# Altium footprint library Inductance.PcbLib: 18 footprints (part 1 of 2)
Each footprint in its own frame and in the unit in brackets; x right, y up, seen from the top. Pads: shape width x height; smd on the part's side, far side on the other; paste and mask are expansions set on the pad; w line width, h text height; cw(c..) or ccw(c..) is an arc to the next point about the centre after c.
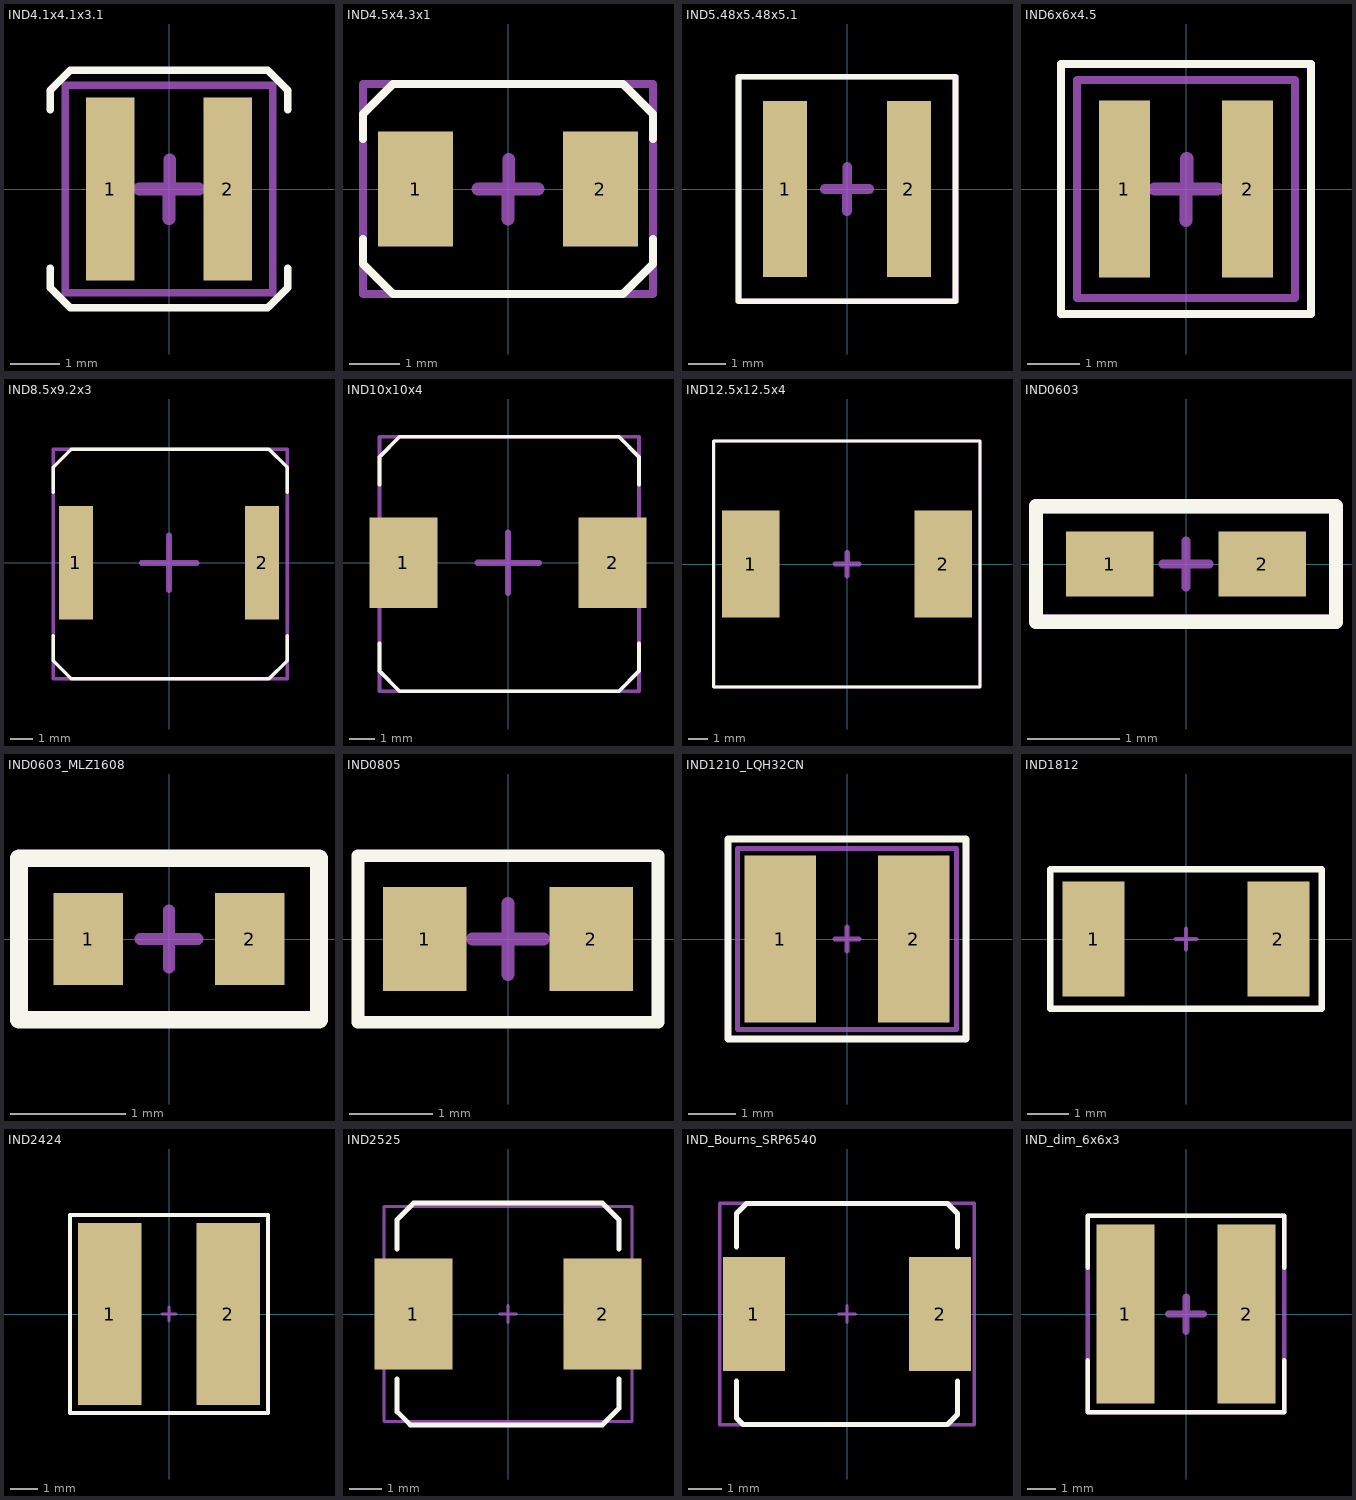
[diagram p0: the footprints below, top view; thin cyan lines are the x and y axes]

## IND4.1x4.1x3.1 [mm]
pads (2):
  rect 0.98x3.7 smd: 1(-1.185,0) 2(1.185,0)
Top Overlay:
  lines w0.153: -2.4,-1.6 -2.4,-2 -2,-2.4 2,-2.4 2.4,-2 2.4,-1.6 ; -2.4,1.6 -2.4,2 -2,2.4 2,2.4 2.4,2 2.4,1.6
Top Assembly:
  lines w0.153: -2.1,-2.1 2.1,-2.1 2.1,2.1 -2.1,2.1 -2.1,-2.1
  text "'.Designator'" at -2.2,2.1 h0.8
Top Courtyard:
  lines w0.1: -2.1,-2.1 2.1,-2.1 2.1,2.1 -2.1,2.1 -2.1,-2.1
  lines w0.254: -0.6,0 0,0 ; 0,-0.6 0,0 ; 0.013,-0.011 0.013,0.589 ; 0.6,0 0,0
3D body "WE-MAPI-4030_stp (rev1).stp": height 3.1, standoff 0, extent -2.05,-2.05 2.05,2.05

## IND4.5x4.3x1 [mm]
pads (2):
  rect 1.5x2.3 smd: 1(-1.85,0) 2(1.85,0)
Top Overlay:
  lines w0.153: -2.9,-1 -2.9,-1.5 -2.3,-2.1 -1.8,-2.1 2.3,-2.1 2.9,-1.5 2.9,-1 ; -2.9,1 -2.9,1.5 -2.3,2.1 -1.8,2.1 2.3,2.1 2.9,1.5 2.9,1
Top Assembly:
  lines w0.153: -2.9,-2.1 2.9,-2.1 2.9,2.1 -2.9,2.1 -2.9,-2.1
  text "'.Designator'" at -2.9,2.1 h0.8
Top Courtyard:
  lines w0.1: -2.9,-2.1 2.9,-2.1 2.9,2.1 -2.9,2.1 -2.9,-2.1
  lines w0.254: -0.6,0 0,0 ; 0,-0.6 0,0 ; 0.013,-0.011 0.013,0.589 ; 0.6,0 0,0

## IND5.48x5.48x5.1 [mm]
pads (2):
  rect 1.18x4.7 smd: 1(-1.655,0) 2(1.655,0)
Top Overlay:
  lines w0.153: -2.9,-3 2.9,-3 2.9,3 -2.9,3 -2.9,-3
Top Assembly:
  lines w0.153: -2.9,-3 2.9,-3 2.9,3 -2.9,3 -2.9,-3
  text "'.Designator'" at -2.9,3 h0.8
Top Courtyard:
  lines w0.1: -2.9,-3 -2.9,3 2.9,3 2.9,-3 -2.9,-3
  lines w0.254: -0.6,0 0,0 ; 0,-0.6 0,0 ; 0.013,-0.011 0.013,0.589 ; 0.6,0 0,0
3D body "Coilcraft-XAL5030.step": height 3, standoff -0.1, extent -2.74,-2.84 2.74,2.84

## IND6x6x4.5 [mm]
pads (2):
  rect 0.98x3.4 smd: 1(-1.185,0) 2(1.185,0)
Top Overlay:
  lines w0.153: -2.4,-2.4 2.4,-2.4 2.4,2.4 -2.4,2.4 -2.4,-2.4
Top Assembly:
  lines w0.153: -2.1,-2.1 2.1,-2.1 2.1,2.1 -2.1,2.1 -2.1,-2.1
  text "'.Designator'" at -4.532,-0.333 h0.8
Top Courtyard:
  lines w0.1: -2.1,-2.1 2.1,-2.1 2.1,2.1 -2.1,2.1 -2.1,-2.1
  lines w0.254: -0.6,0 0,0 ; 0,-0.6 0,0 ; 0.013,-0.011 0.013,0.589 ; 0.6,0 0,0
3D body "Coilcraft-XEL4020.step": height 2, standoff -0.1, extent -2.15,-2.15 2.15,2.15

## IND8.5x9.2x3 [mm]
pads (2):
  rect 1.5x5 smd: 1(-4.1,0) 2(4.1,0)
Top Overlay:
  lines w0.153: -5.1,-3.2 -5.1,-4.3 -4.3,-5.1 -2.7,-5.1 2.8,-5.1 4.4,-5.1 5.2,-4.3 5.2,-3.2 ; -5.1,3.1 -5.1,4.2 -4.3,5 -2.7,5 2.8,5 4.4,5 5.2,4.2 5.2,3.1
Top Assembly:
  lines w0.153: -5.1,-5.1 -5.1,5 5.2,5 5.2,-5.1 -5.1,-5.1
  text "'.Designator'" at -5.1,5 h0.8
Top Courtyard:
  lines w0.1: -5.1,-5.1 -5.1,5 5.2,5 5.2,-5.1 -5.1,-5.1
  lines w0.254: -1.194,-0.003 0.006,-0.003 ; 0,-1.2 0,0 0,1.2 ; 0.014,-0.012 1.214,-0.012
3D body "IND_74437356022_WRE.step": height 3, standoff 0, extent -4.597,-4.6 4.597,4.6

## IND10x10x4 [mm]
pads (2):
  rect 2.7x3.6 smd: 1(-4.15,0) 2(4.15,0)
Top Overlay:
  lines w0.153: -5.1,-3.2 -5.1,-4.3 -4.3,-5.1 -2.7,-5.1 2.8,-5.1 4.4,-5.1 5.2,-4.3 5.2,-3.2 ; -5.1,3.1 -5.1,4.2 -4.3,5 -2.7,5 2.8,5 4.4,5 5.2,4.2 5.2,3.1
Top Assembly:
  lines w0.153: -5.1,-5.1 -5.1,5 5.2,5 5.2,-5.1 -5.1,-5.1
  text "'.Designator'" at -5.1,5 h0.8
Top Courtyard:
  lines w0.1: -5.1,-5.1 -5.1,5 5.2,5 5.2,-5.1 -5.1,-5.1
  lines w0.254: -1.194,-0.003 0.006,-0.003 ; 0,-1.2 0,0 0,1.2 ; 0.014,-0.012 1.214,-0.012
3D body "SRR1050A.stp": height 4.8, standoff 0, extent -5.055,-5.004 5.155,5.004

## IND12.5x12.5x4 [mm]
pads (2):
  rect 2.9x5.4 smd: 1(-4.85,0) 2(4.85,0)
Top Overlay:
  lines w0.153: -6.713,-6.2 -6.713,6.2 6.687,6.2 6.687,-6.2 -6.713,-6.2
Top Assembly:
  lines w0.153: -6.7,-6.2 6.7,-6.2 6.7,6.2 -6.7,6.2 -6.7,-6.2
  text "'.Designator'" at -6.713,6.2 h0.8
Top Courtyard:
  lines w0.1: -6.7,-6.2 -6.7,6.2 6.7,6.2 6.7,-6.2 -6.7,-6.2
  lines w0.254: -0.6,0 0,0 ; 0,-0.6 0,0 ; 0.013,-0.011 0.013,0.589 ; 0.6,0 0,0
3D body "srr1240-100m.stp": height 4, standoff 0, extent -6.25,-6.25 6.25,6.25

## IND0603 [mm]
pads (2):
  rect 0.95x0.7 smd: 1(-0.825,0) 2(0.825,0)
Top Overlay:
  lines w0.153: -1.625,-0.625 -1.625,0.625 1.625,0.625 1.625,-0.625 -1.625,-0.625
Top Assembly:
  lines w0.153: -1.625,-0.625 -1.625,0.625 1.625,0.625 1.625,-0.625 -1.625,-0.625
  text "'.Designator'" at -1.625,0.625 h0.8
Top Courtyard:
  lines w0.1: -0.25,0 0.25,0 ; 0,-0.25 0,0.25 ; -1.625,-0.625 1.625,-0.625 1.625,0.625 -1.625,0.625 -1.625,-0.625
3D body "User Library-CR1608-0603.STEP": height 0.45, standoff 0, extent -0.8,-0.4 0.8,0.4

## IND0603_MLZ1608 [mm]
pads (2):
  rect 0.6x0.8 smd: 1(-0.7,0) 2(0.7,0)
Top Overlay:
  lines w0.153: -1.3,-0.7 1.3,-0.7 1.3,0.7 -1.3,0.7 -1.3,-0.7
Top Assembly:
  lines w0.1: -1.3,-0.7 1.3,-0.7 1.3,0.7 -1.3,0.7 -1.3,-0.7
  text "'.Designator'" at -4.7,-0.6 h0.8
Top Courtyard:
  lines w0.1: -0.25,0 0.25,0 ; 0,-0.25 0,0.25 ; -1.3,-0.7 -1.3,0.7 1.3,0.7 1.3,-0.7 -1.3,-0.7
3D body "MLZ1608M100WTD25.stp": height 1, standoff 0.05, extent -0.8,-0.4 0.8,0.4

## IND0805 [mm]
pads (2):
  rect 1x1.25 smd: 1(-1,0) 2(1,0)
Top Overlay:
  lines w0.153: -1.8,-1 1.8,-1 1.8,1 -1.8,1 -1.8,-1
Top Assembly:
  lines w0.1: -1.8,-1 -1.8,1 1.8,1 1.8,-1 -1.8,-1
  text "'.Designator'" at -1.647,1.32 h0.8
Top Courtyard:
  lines w0.1: -1.8,-1 1.8,-1 1.8,1 -1.8,1 -1.8,-1
  lines w0.153: -0.425,0 0.425,0 ; 0,-0.425 0,0.425
3D body "45618.stp": height 1.25, standoff 0, extent -1,-0.625 1,0.625

## IND1210_LQH32CN [mm]
pads (2):
  rect 1.5x3.5 smd: 1(-1.4,0) 2(1.4,0)
Top Overlay:
  lines w0.153: -2.5,-2.1 -2.5,2.1 2.5,2.1 2.5,-2.1 -2.5,-2.1
Top Assembly:
  lines w0.1: -2.3,-1.9 -2.3,1.9 2.3,1.9 2.3,-1.9 -2.3,-1.9
  text "'.Designator'" at -4.685,-0.755 h0.8
Top Courtyard:
  lines w0.1: -0.25,0 0.25,0 ; 0,-0.25 0,0.25 ; -2.3,-1.9 2.3,-1.9 2.3,1.9 -2.3,1.9 -2.3,-1.9
3D body "MURATA_1210_LQH32CN.step": height 2, standoff 0, extent -1.601,-1.36 1.601,1.36

## IND1812 [mm]
pads (2):
  rect 1.5x2.8 smd: 1(-2.25,0) 2(2.25,0)
Top Overlay:
  lines w0.153: -3.3,-1.7 -3.3,1.7 3.3,1.7 3.3,-1.7 -3.3,-1.7
Top Assembly:
  lines w0.1: -3.3,-1.7 -3.3,1.7 3.3,1.7 3.3,-1.7 -3.3,-1.7
  text "'.Designator'" at -3.7,-0.7 h0.8
Top Courtyard:
  lines w0.1: -0.25,0 0.25,0 ; 0,-0.25 0,0.25 ; -3.3,-1.7 3.3,-1.7 3.3,1.7 -3.3,1.7 -3.3,-1.7
3D body "L_SMD-1812.step": height 3.2, standoff 0, extent -2.25,-1.6 2.25,1.6

## IND2424 [mm]
pads (2):
  rect 2.3x6.6 smd: 1(-2.15,0) 2(2.15,0)
Top Overlay:
  lines w0.153: -3.6,-3.6 -3.6,3.6 3.6,3.6 3.6,-3.6 -3.6,-3.6
Top Assembly:
  lines w0.1: -3.6,-3.6 -3.6,3.6 3.6,3.6 3.6,-3.6 -3.6,-3.6
  text "'.Designator'" at -3.7,-0.7 h0.8
Top Courtyard:
  lines w0.1: -0.25,0 0.25,0 ; 0,-0.25 0,0.25 ; -3.6,-3.6 3.6,-3.6 3.6,3.6 -3.6,3.6 -3.6,-3.6
3D body "Coilcraft-LPS6235.step": height 3.5, standoff 0, extent -3.038,-3.038 3.038,3.038

## IND2525 [mm]
pads (2):
  rect 2.4x3.4 smd: 1(-2.9,0) 2(2.9,0)
Top Overlay:
  lines w0.153: -3.4,-2 -3.4,-3 -3,-3.4 2.9,-3.4 3.4,-2.9 3.4,-2 ; -3.4,2 -3.4,2.9 -2.9,3.4 2.9,3.4 3.4,2.9 3.4,2
Top Assembly:
  lines w0.1: -3.8,-3.3 -3.8,3.3 3.8,3.3 3.8,-3.3 -3.8,-3.3
  text "'.Designator'" at -3.7,-0.7 h0.8
Top Courtyard:
  lines w0.1: -0.25,0 0.25,0 ; 0,-0.25 0,0.25 ; -3.8,-3.3 3.8,-3.3 3.8,3.3 -3.8,3.3 -3.8,-3.3
3D body "70411244.stp": height 2.89, standoff 0, extent -3.532,-3.331 3.545,3.339

## IND_Bourns_SRP6540 [mm]
pads (2):
  rect 1.85x3.4 smd: 1(-2.775,0) 2(2.775,0)
Top Overlay:
  lines w0.153: -3.3,-2 -3.3,-3.1 -3.1,-3.3 3,-3.3 3.3,-3 3.3,-2 ; -3.3,2 -3.3,3 -3,3.3 3,3.3 3.3,3 3.3,2
Top Assembly:
  lines w0.1: -3.8,-3.3 3.8,-3.3 3.8,3.3 -3.8,3.3 -3.8,-3.3
  text "'.Designator'" at -3.7,-0.7 h0.8
Top Courtyard:
  lines w0.1: -0.25,0 0.25,0 ; 0,-0.25 0,0.25 ; -3.8,-3.3 -3.8,3.3 3.8,3.3 3.8,-3.3 -3.8,-3.3
3D body "SRP6540.stp": height 3.98, standoff -0.01, extent -3.594,-3.251 3.594,3.251

## IND_dim_6x6x3 [mm]
pads (2):
  rect 2x6.2 smd: 1(-2.1,0) 2(2.1,0)
Top Overlay:
  lines w0.153: -3.4,-1.6 -3.4,-3.4 3.4,-3.4 3.4,-1.6 ; -3.4,1.6 -3.4,3.4 3.4,3.4 3.4,1.6
Top Assembly:
  lines w0.153: -3.4,-3.4 3.4,-3.4 3.4,3.4 -3.4,3.4 -3.4,-3.4
  text "'.Designator'" at -4.685,-0.755 h0.8
Top Courtyard:
  lines w0.1: -3.4,-3.4 3.4,-3.4 3.4,3.4 -3.4,3.4 -3.4,-3.4
  lines w0.254: -0.6,0 0,0 ; 0,-0.6 0,0 ; 0.013,-0.011 0.013,0.589 ; 0.6,0 0,0
3D body "SUMIDA-CDRH50D28BT150.STEP": height 2.24, standoff -0.56, extent -2.6,-2.65 2.58,2.65